# Altium footprint library RESC1608X55.PcbLib: 1 footprints
Each footprint in its own frame and in the unit in brackets; x right, y up, seen from the top. Pads: shape width x height; smd on the part's side, far side on the other; paste and mask are expansions set on the pad; w line width, h text height; cw(c..) or ccw(c..) is an arc to the next point about the centre after c.
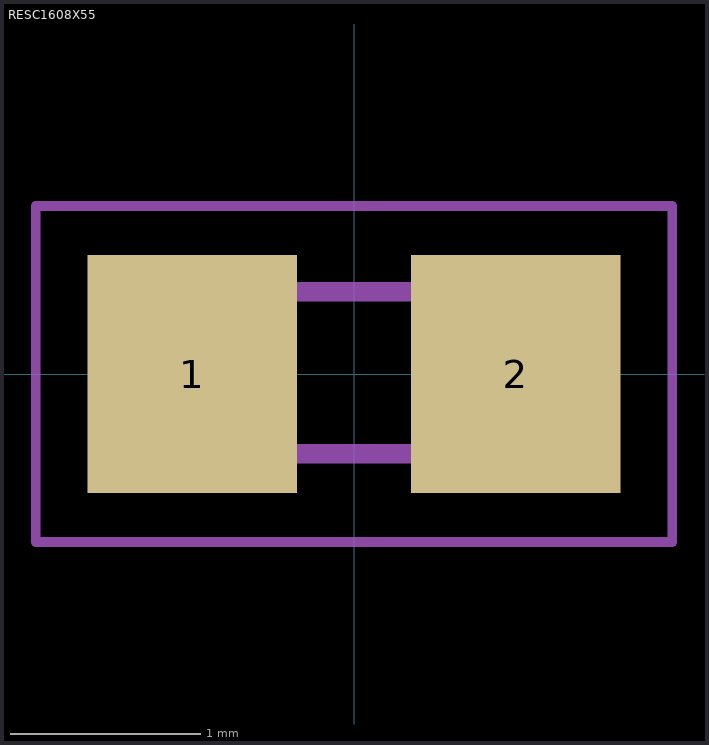
[diagram p0: the footprint, top view; thin cyan lines are the x and y axes]

## RESC1608X55 [mm]
pads (2):
  rect 1.1x1.25 smd paste+0 mask+0.102: 1(-0.85,0) 2(0.85,0)
Assembly Top:
  region: 0.83,-0.47 0.331,-0.47 0.331,0.48 0.83,0.48
  region: -0.338,-0.47 -0.839,-0.47 -0.839,0.48 -0.338,0.48
  lines w0.102: -0.356,-0.419 0.356,-0.419 ; -0.356,0.432 0.356,0.432
Courtyard Top:
  lines w0.051: -1.673,-0.883 -1.673,0.883 1.673,0.883 1.673,-0.883 -1.673,-0.883
3D body "step_temp.STEP": height 0.55, standoff 0, extent -0.775,-0.425 0.775,0.425